# EAGLE library part 52207-1085 (library molex)
SOCKET FPC, SMT, 1MM, 10 WAY
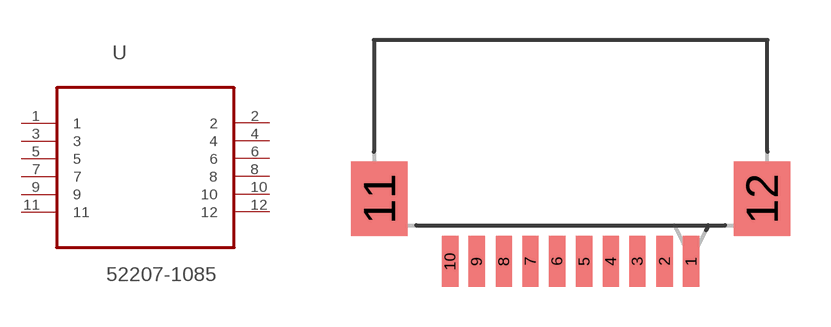
[diagram p2: symbol with the pads of MOLEX_52207-1085; footprint MOLEX_52207-1085]

Designator prefix U

## 52207-1085 (MPN: 52207-1085; OC_FARNELL: 1079938; OC_NEWARK: 58J9503; PACKAGE: SOCKET FPC, SMT, 1MM, 10 WAY; SUPPLIER: Molex)  [MOLEX_52207-1085]
1  1  pas
2  2  pas
3  3  pas
4  4  pas
5  5  pas
6  6  pas
7  7  pas
8  8  pas
9  9  pas
10  10  pas
11  11  pas
12  12  pas

## Footprint MOLEX_52207-1085 (pad centres in mm)
smd 0.61 x 1.905: 1 4.496,4.801; 2 3.505,4.801; 3 2.489,4.801; 4 1.499,4.801; 5 0.508,4.801; 6 -0.508,4.801; 7 -1.499,4.801; 8 -2.489,4.801; 9 -3.505,4.801; 10 -4.496,4.801
smd 2.108 x 2.794: 11 -7.137,7.137; 12 7.137,7.137